# Altium footprint library Color.Pcblib: 18 footprints (part 1 of 2)
Each footprint in its own frame and in the unit in brackets; x right, y up, seen from the top. Pads: shape width x height; smd on the part's side, far side on the other; paste and mask are expansions set on the pad; w line width, h text height; cw(c..) or ccw(c..) is an arc to the next point about the centre after c.
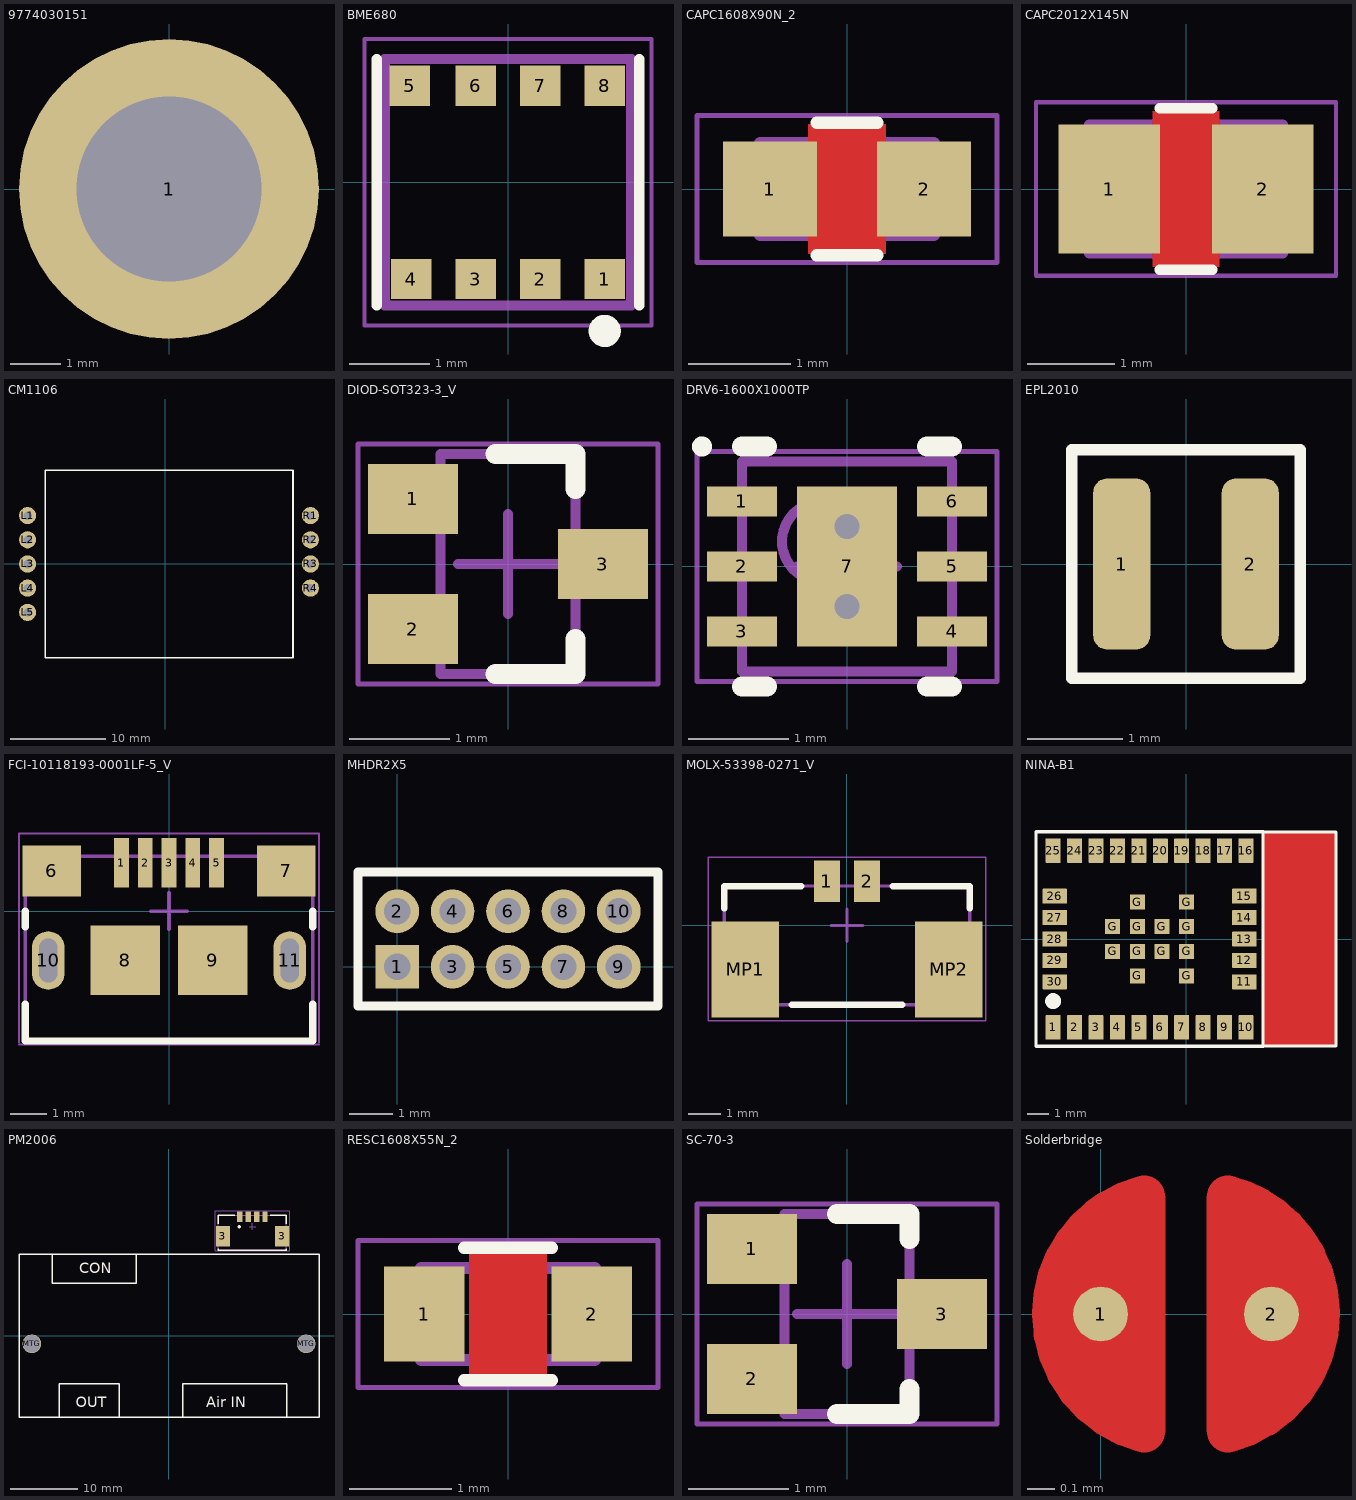
[diagram p0: the footprints below, top view; thin cyan lines are the x and y axes]

## 9774030151 [mm] "M2.5 Thread Internal, Length 3mm"
height 3
pads (1):
  round 6 / inner round 0 / far side round 0 hole 3.7 paste-403.566: 1(0,0)
Top Paste:
  region: 2.939,-0.25 2.917,-0.508 2.784,-1.009 2.566,-1.478 2.269,-1.903 1.903,-2.269 1.478,-2.566 1.009,-2.784 0.508,-2.917 0.25,-2.939 0.25,-1.883 0.403,-1.857 0.699,-1.767 0.977,-1.629 1.229,-1.449 1.449,-1.229 1.629,-0.977 1.767,-0.7 1.857,-0.403 1.883,-0.25
  region: -0.25,-2.939 -0.508,-2.917 -1.009,-2.784 -1.478,-2.566 -1.903,-2.269 -2.269,-1.903 -2.566,-1.478 -2.784,-1.009 -2.917,-0.508 -2.939,-0.25 -1.883,-0.25 -1.857,-0.403 -1.767,-0.699 -1.629,-0.977 -1.449,-1.229 -1.229,-1.449 -0.977,-1.629 -0.7,-1.767 -0.403,-1.857 -0.25,-1.883
  region: -2.939,0.25 -2.917,0.508 -2.784,1.009 -2.566,1.478 -2.269,1.903 -1.903,2.269 -1.478,2.566 -1.009,2.784 -0.508,2.917 -0.25,2.939 -0.25,1.883 -0.403,1.857 -0.699,1.767 -0.977,1.629 -1.229,1.449 -1.449,1.229 -1.629,0.977 -1.767,0.7 -1.857,0.403 -1.883,0.25
  region: 0.25,2.939 0.508,2.917 1.009,2.784 1.478,2.566 1.903,2.269 2.269,1.903 2.566,1.478 2.784,1.009 2.917,0.508 2.939,0.25 1.883,0.25 1.857,0.403 1.767,0.699 1.629,0.977 1.449,1.229 1.229,1.449 0.977,1.629 0.7,1.767 0.403,1.857 0.25,1.883
Mechanical 13:
  circle w0.15: c0,0 r2.55
3D body "9774030151.stp": height 3.01, standoff -1.39, extent -2.55,-2.547 2.55,2.547

## BME680 [mm]
height 3.25
pads (8):
  rect 0.5x0.5 smd: 1(1.2,-1.2) 2(0.4,-1.2) 3(-0.4,-1.2) 4(-1.2,-1.2) 5(-1.22,1.2) 6(-0.4,1.2) 7(0.4,1.2) 8(1.2,1.2)
Top Overlay:
  circle w0.2: c1.2,-1.845 r0.1
  lines w0.127: -1.63,-1.53 -1.63,1.53 ; 1.63,-1.53 1.63,1.53
Mechanical 1:
  lines w0.05: -1.78,-1.78 1.78,-1.78 1.78,1.78 -1.78,1.78 -1.78,-1.78
  lines w0.127: -1.53,-1.53 -1.53,1.53 1.53,1.53 1.53,-1.53 -1.53,-1.53
3D body "BME680.STEP": height 0.95, standoff 0, extent -1.5,-1.5 1.5,1.5

## CAPC1608X90N_2 [mm]
height 1.25
pads (2):
  rect 0.92x0.93 smd: 1(-0.755,0) 2(0.755,0)
Top Layer:
  pour cut-out: -0.381,-0.635 0.381,-0.635 0.381,0.635 -0.381,0.635
Top Overlay:
  lines w0.12: -0.3,-0.65 0.3,-0.65 ; -0.3,0.65 0.3,0.65
Mechanical 13:
  lines w0.001: -0.85,-0.45 -0.85,0.45 0.85,0.45 0.85,-0.45 -0.85,-0.45
  lines w0.12: -0.85,-0.45 -0.85,0.45 0.85,0.45 0.85,-0.45 -0.85,-0.45
Mechanical 15:
  circle w0.05: c0,0 r0.25
  lines w0.05: -0.35,0 0.35,0 ; 0,-0.35 0,0.35 ; -1.47,-0.72 -1.47,0.72 1.47,0.72 1.47,-0.72 -1.47,-0.72
3D body "CAPC1608X90.STEP": height 0.9, standoff 0, extent -0.8,-0.4 0.8,0.4

## CAPC2012X145N [mm]
pads (2):
  rect 1.16x1.47 smd: 1(-0.875,0) 2(0.875,0)
Top Layer:
  pour cut-out: -0.381,-0.889 0.381,-0.889 0.381,0.889 -0.381,0.889
Top Overlay:
  lines w0.12: -0.3,-0.92 0.3,-0.92 ; -0.3,0.92 0.3,0.92
Mechanical 13:
  lines w0.001: -1.1,-0.725 -1.1,0.725 1.1,0.725 1.1,-0.725 -1.1,-0.725
  lines w0.12: -1.1,-0.73 1.1,-0.73 1.1,0.73 -1.1,0.73 -1.1,-0.73
Mechanical 15:
  circle w0.05: c0,0 r0.25
  lines w0.05: -0.35,0 0.35,0 ; 0,-0.35 0,0.35 ; -1.71,-0.99 1.71,-0.99 1.71,0.99 -1.71,0.99 -1.71,-0.99
3D body "CAPC2012X145.STEP": height 1.45, standoff 0, extent -1,-0.625 1,0.625

## CM1106 [mm]
height 8.9
pads (9):
  round 1.8 hole 0.9: L1(-14.463,5.08) L2(-14.463,2.54) L3(-14.463,0) L4(-14.463,-2.54) L5(-14.463,-5.08) R1(15.25,5.08) R2(15.25,2.54) R3(15.25,0) R4(15.25,-2.54)
Top Overlay:
  lines w0.2: -12.601,-9.853 13.399,-9.853 13.399,9.847 -12.601,9.847 -12.601,-9.853
3D body "CM1106_C.STEP": height 18.1, standoff 1.5, extent -16.2,-9.85 16.8,9.85
3D body "SLW-105-01-G-S.stp": height 4.57, standoff -2.92, extent -15.733,-6.35 -13.193,6.35
3D body "SLW-104-01-G-S.stp": height 4.57, standoff -2.92, extent 13.93,-3.78 16.47,6.38

## DIOD-SOT323-3_V [mm] "SOT323, 3-Leads, Body 2.2x1.35mm, Pitch 0.65mm"
height 1.071
pads (3):
  rect 0.9x0.7 smd: 1(-0.95,0.65) 2(-0.95,-0.65) 3(0.95,0)
Top Overlay:
  lines w0.2: -0.125,-1.1 0.675,-1.1 0.675,-0.75 ; -0.125,1.1 0.675,1.1 0.675,0.75
Mechanical 13:
  lines w0.1: -0.675,-1.1 0.675,-1.1 0.675,1.1 -0.675,1.1 -0.675,-1.1
Mechanical 15:
  lines w0.05: -1.5,-1.2 1.5,-1.2 1.5,1.2 -1.5,1.2 -1.5,-1.2
  lines w0.1: -0.5,0 0.5,0 ; 0,-0.5 0,0.5
3D body "SOT65P210X107-3L.step": height 1.07, standoff 0, extent -1.1,-1.1 1.1,1.1

## DRV6-1600X1000TP [mm] "SON, 6-Leads, Body 2x2mm, Pitch 0.65mm, Thermal Pad 1.6x1mm, TI Recommended"
height 0.8
pads (7):
  rect 0.7x0.3 smd paste-0.025 mask+0.07: 1(-1.05,0.65) 2(-1.05,0) 3(-1.05,-0.65) 4(1.05,-0.65) 5(1.05,0) 6(1.05,0.65)
  rect 1x1.6 smd paste-0.5 mask+0.07: 7(0,0)
via 0,-0.4 diameter 0.5 hole 0.25
via 0,0.4 diameter 0.5 hole 0.25
Top Overlay:
  circle w0.1: c-1.45,1.2 r0.05
  lines w0.2: -1.05,-1.2 -0.8,-1.2 ; -1.05,1.2 -0.8,1.2 ; 0.8,-1.2 1.05,-1.2 ; 0.8,1.2 1.05,1.2
Top Paste:
  rectangle: -0.4,-0.7 0.4,0.7
Mechanical 13:
  circle w0.1: c-0.25,0.25 r0.4
  lines w0.1: -1.05,-1.05 1.05,-1.05 1.05,1.05 -1.05,1.05 -1.05,-1.05
Mechanical 15:
  lines w0.05: -1.5,-1.15 1.5,-1.15 1.5,1.15 -1.5,1.15 -1.5,-1.15
  lines w0.1: -0.5,0 0.5,0 ; 0,-0.5 0,0.5
3D body: height 0.8, standoff 0, extent -1.05,-1.05 1.05,1.05

## EPL2010 [mm]
height 3.25
pads (2):
  rrect50% 0.6x1.8 smd: 1(-0.675,0) 2(0.675,0)
Top Overlay:
  lines w0.12: -1.2,-1.2 1.2,-1.2 1.2,1.2 -1.2,1.2 -1.2,-1.2
3D body "Coilcraft-EPL2010 (1).STEP": height 1.05, standoff 0, extent -1.098,-1.098 1.098,1.098

## FCI-10118193-0001LF-5_V [mm] "Micro, USB-B, 5-Leads, Body 7.86x5.05mm, Pitch 0.65 mm"
height 3.25
pads (11):
  rect 0.4x1.35 smd: 1(-1.3,1.325) 2(-0.65,1.325) 3(0,1.325) 4(0.65,1.325) 5(1.3,1.325)
  rect 1.6x1.4 smd: 6(-3.2,1.1) 7(3.2,1.1)
  rect 1.9x1.9 smd: 8(-1.2,-1.35) 9(1.2,-1.35)
  oval 0.9x1.6 hole 0.5 slot 1.2 at 90 deg: 10(-3.3,-1.35) 11(3.3,-1.35)
Top Overlay:
  lines w0.2: -3.93,-2.537 -3.93,-3.55 3.93,-3.55 3.93,-2.537 ; -3.93,-0.428 -3.93,0 ; 3.93,-0.428 3.93,0
Mechanical 13:
  lines w0.1: -3.93,-3.55 -3.93,1.5 3.93,1.5 3.93,-3.55 -3.93,-3.55
Mechanical 15:
  lines w0.05: -4.1,-3.65 4.1,-3.65 ; -4.1,-3.6 -4.1,2.125 4.1,2.125 4.1,-3.6
  lines w0.1: -0.5,0 0.5,0 ; 0,-0.5 0,0.5
3D body "10118193-0001lfc.stp": height 2.83, standoff -0.77, extent -3.928,-4.161 3.929,1.5

## MHDR2X5 [mm] "Connector; Header; 5x2 Position"
height 3.25
pads (10):
  rect 1x1 hole 0.6: 1(0,0)
  round 1 hole 0.6: 2(0,1.27) 3(1.27,0) 4(1.27,1.27) 5(2.54,0) 6(2.54,1.27) 7(3.81,0) 8(3.81,1.27) 9(5.08,0) 10(5.08,1.27)
Top Overlay:
  lines w0.2: -0.9,-0.9 -0.9,2.17 5.98,2.17 5.98,-0.9 -0.9,-0.9

## MOLX-53398-0271_V [mm] "Header, 2-Leads, Body 7.65x3.7mm, Pitch 1.25mm"
height 4.7
pads (4):
  rect 0.8x1.3 smd: 1(-0.625,1.375) 2(0.625,1.375)
  rect 2.1x3 smd: MP1(-3.175,-1.375) MP2(3.175,-1.375)
Top Overlay:
  lines w0.2: -3.825,0.525 -3.825,1.225 -1.425,1.225 ; -1.725,-2.475 1.725,-2.475 ; 1.425,1.225 3.825,1.225 3.825,0.525
Mechanical 13:
  lines w0.1: -3.825,-2.475 3.825,-2.475 3.825,1.225 -3.825,1.225 -3.825,-2.475
Mechanical 15:
  lines w0.05: -4.325,-2.975 -4.325,2.125 4.325,2.125 4.325,-2.975 -4.325,-2.975
  lines w0.1: -0.5,0 0.5,0 ; 0,-0.5 0,0.5
3D body "533980271.stp": height 4.72, standoff -0.02, extent -3.825,-2.489 3.825,1.711

## NINA-B1 [mm] "Stand-alone Bluetooth low energy module"
height 4.14
pads (42):
  rrect10% 0.7x1.15 smd paste+0 mask+0.05: 1(-6.2,-4.125) 2(-5.2,-4.125) 3(-4.2,-4.125) 4(-3.2,-4.125) 5(-2.2,-4.125) 6(-1.2,-4.125) 7(-0.2,-4.125) 8(0.8,-4.125) 9(1.8,-4.125) 10(2.8,-4.125) 16(2.8,4.125) 17(1.8,4.125) 18(0.8,4.125) 19(-0.2,4.125) 20(-1.2,4.125) 21(-2.2,4.125) 22(-3.2,4.125) 23(-4.2,4.125) 24(-5.2,4.125) 25(-6.2,4.125)
  rrect10% 1.15x0.7 smd paste+0 mask+0.05: 11(2.725,-2) 12(2.725,-1) 13(2.725,0) 14(2.725,1) 15(2.725,2) 26(-6.125,2) 27(-6.125,1) 28(-6.125,0) 29(-6.125,-1) 30(-6.125,-2)
  rect 0.7x0.7 smd paste+0 mask+0.05: G(-3.425,-0.575) G(-3.425,0.575) G(-2.275,-1.725) G(-2.275,-0.575) G(-2.275,0.575) G(-2.275,1.725) G(-1.125,-0.575) G(-1.125,0.575) G(0.025,-1.725) G(0.025,-0.575) G(0.025,0.575) G(0.025,1.725)
Top Layer:
  pour cut-out: 3.6,-5 7,-5 7,5 3.6,5
Bottom Layer:
  pour cut-out: 3.6,-5 7,-5 7,5 3.6,5
Top Overlay:
  circle w0.5: c-6.2,-2.9 r0.12
  lines w0.15: -7,-5 7,-5 7,5 -7,5 ; -7,-5 3.6,-5 3.6,5 -7,5 ; -7,-5 -7,5
Mechanical 13:
  lines w0.1: -7,-5 7,-5 7,5 -7,5 -7,-5
3D body: height 4.1, standoff 0, extent 3.6,-5 7,5
3D body: height 2.5, standoff 0.05, extent -7,-5 3.6,5

## PM2006 [mm]
pads (8):
  rect 0.8x1.6 smd: 1(10.6,17.775) 2(11.85,17.775) 3(13.1,17.775) 4(14.35,17.775)
  rect 2.1x3 smd: 3(8.05,14.875) 3(16.9,14.875)
  round 2.8 hole 2.6: MTG(-20.5,-1.207) MTG(20.5,-1.207)
Top Overlay:
  circle w0.25: c10.5,16.293 r0.125
  lines w0.2: -17.425,12.173 -17.425,7.823 -4.925,7.823 -4.925,12.173 ; -16.425,-12.177 -16.425,-10.677 -16.425,-7.177 -7.425,-7.177 -7.425,-12.177 ; 2.075,-12.177 2.075,-7.177 17.575,-7.177 17.575,-12.177 ; 7.4,12.975 7.4,12.775 17.55,12.775 17.55,12.975 ; 7.4,16.775 7.4,17.975 9.8,17.975 ; 15.15,17.975 17.55,17.975 17.55,16.775 ; -22.425,-12.177 22.425,-12.177 22.425,12.173 -22.425,12.173 -22.425,-12.177
  text "CON" at -13.425,9.323 h1.6
  text "OUT" at -13.925,-10.677 h1.6
  text "Air IN" at 5.575,-10.677 h1.6
Mechanical 13:
  lines w0.1: 7.4,12.775 7.4,17.975 17.55,17.975 17.55,12.775 7.4,12.775
Mechanical 15:
  lines w0.05: 6.9,12.675 6.9,18.675 18.05,18.675 18.05,12.675 6.9,12.675
  lines w0.1: 11.975,16.325 12.975,16.325 ; 12.475,15.825 12.475,16.825
3D body "PM2006.stp": height 16.45, standoff 0.05, extent -22.425,-12.177 22.425,12.173
3D body "533980471.stp": height 4.77, standoff 0.03, extent 7.375,13.575 17.525,17.775

## RESC1608X55N_2 [mm]
height 3.25
pads (2):
  rect 0.79x0.93 smd: 1(-0.82,0) 2(0.82,0)
Top Layer:
  pour cut-out: -0.381,-0.635 0.381,-0.635 0.381,0.635 -0.381,0.635
Top Overlay:
  lines w0.12: -0.43,-0.65 0.43,-0.65 ; -0.43,0.65 0.43,0.65
Mechanical 13:
  lines w0.001: -0.85,-0.45 -0.85,0.45 0.85,0.45 0.85,-0.45 -0.85,-0.45
  lines w0.12: -0.85,-0.45 -0.85,0.45 0.85,0.45 0.85,-0.45 -0.85,-0.45
Mechanical 15:
  circle w0.05: c0,0 r0.25
  lines w0.05: -0.35,0 0.35,0 ; 0,-0.35 0,0.35 ; -1.47,-0.72 -1.47,0.72 1.47,0.72 1.47,-0.72 -1.47,-0.72
3D body "RESC1608X55.STEP": height 0.55, standoff 0, extent -0.8,-0.4 0.8,0.4

## SC-70-3 [mm] "SOT23, 3-Leads, Body 2x1.25mm, Pitch 0.65mm"
height 1
pads (3):
  rect 0.9x0.7 smd: 1(-0.95,0.65) 2(-0.95,-0.65) 3(0.95,0)
Top Overlay:
  lines w0.2: -0.1,-1 0.625,-1 0.625,-0.75 ; -0.1,1 0.625,1 0.625,0.75
Mechanical 13:
  lines w0.1: -0.625,-1 0.625,-1 0.625,1 -0.625,1 -0.625,-1
Mechanical 15:
  lines w0.05: -1.5,-1.1 1.5,-1.1 1.5,1.1 -1.5,1.1 -1.5,-1.1
  lines w0.1: -0.5,0 0.5,0 ; 0,-0.5 0,0.5
3D body: height 1, standoff 0, extent -0.625,-1 0.625,1

## Solderbridge [mm]
height 3.25
pads (2):
  round 0.2 smd paste-10: 1(0,0) 2(0.625,0)
Top Layer:
  region: 0.236,-0.432 0.16,-0.505 0.042,-0.467 -0.023,-0.424 -0.097,-0.351 -0.15,-0.292 -0.208,-0.193 -0.236,-0.099 -0.231,0.122 -0.206,0.193 -0.122,0.33 -0.038,0.411 0.054,0.469 0.155,0.5 0.206,0.483 0.236,0.43
  region: 0.389,0.432 0.465,0.505 0.583,0.467 0.648,0.424 0.721,0.351 0.775,0.292 0.833,0.193 0.861,0.099 0.856,-0.122 0.831,-0.193 0.747,-0.33 0.663,-0.411 0.571,-0.469 0.47,-0.5 0.419,-0.483 0.389,-0.43
  lines w0.152: 0.159,-0.431 cw(c0.27,0) -0.175,0 cw(c0.27,0) 0,0.353 cw(c0.27,0) 0.025,0.371 cw(c0.27,0) 0.159,0.431 ; 0.465,-0.431 ccw(c0.355,0) 0.774,0.149 ccw(c0.355,0) 0.625,0.353 ccw(c0.355,0) 0.465,0.431
Top Solder:
  circle w0.61: c0.31,0 r0.279